# Altium footprint library PcbLib1.PcbLib: 38 footprints (part 2 of 3)
Each footprint in its own frame and in the unit in brackets; x right, y up, seen from the top. Pads: shape width x height; smd on the part's side, far side on the other; paste and mask are expansions set on the pad; w line width, h text height; cw(c..) or ccw(c..) is an arc to the next point about the centre after c.
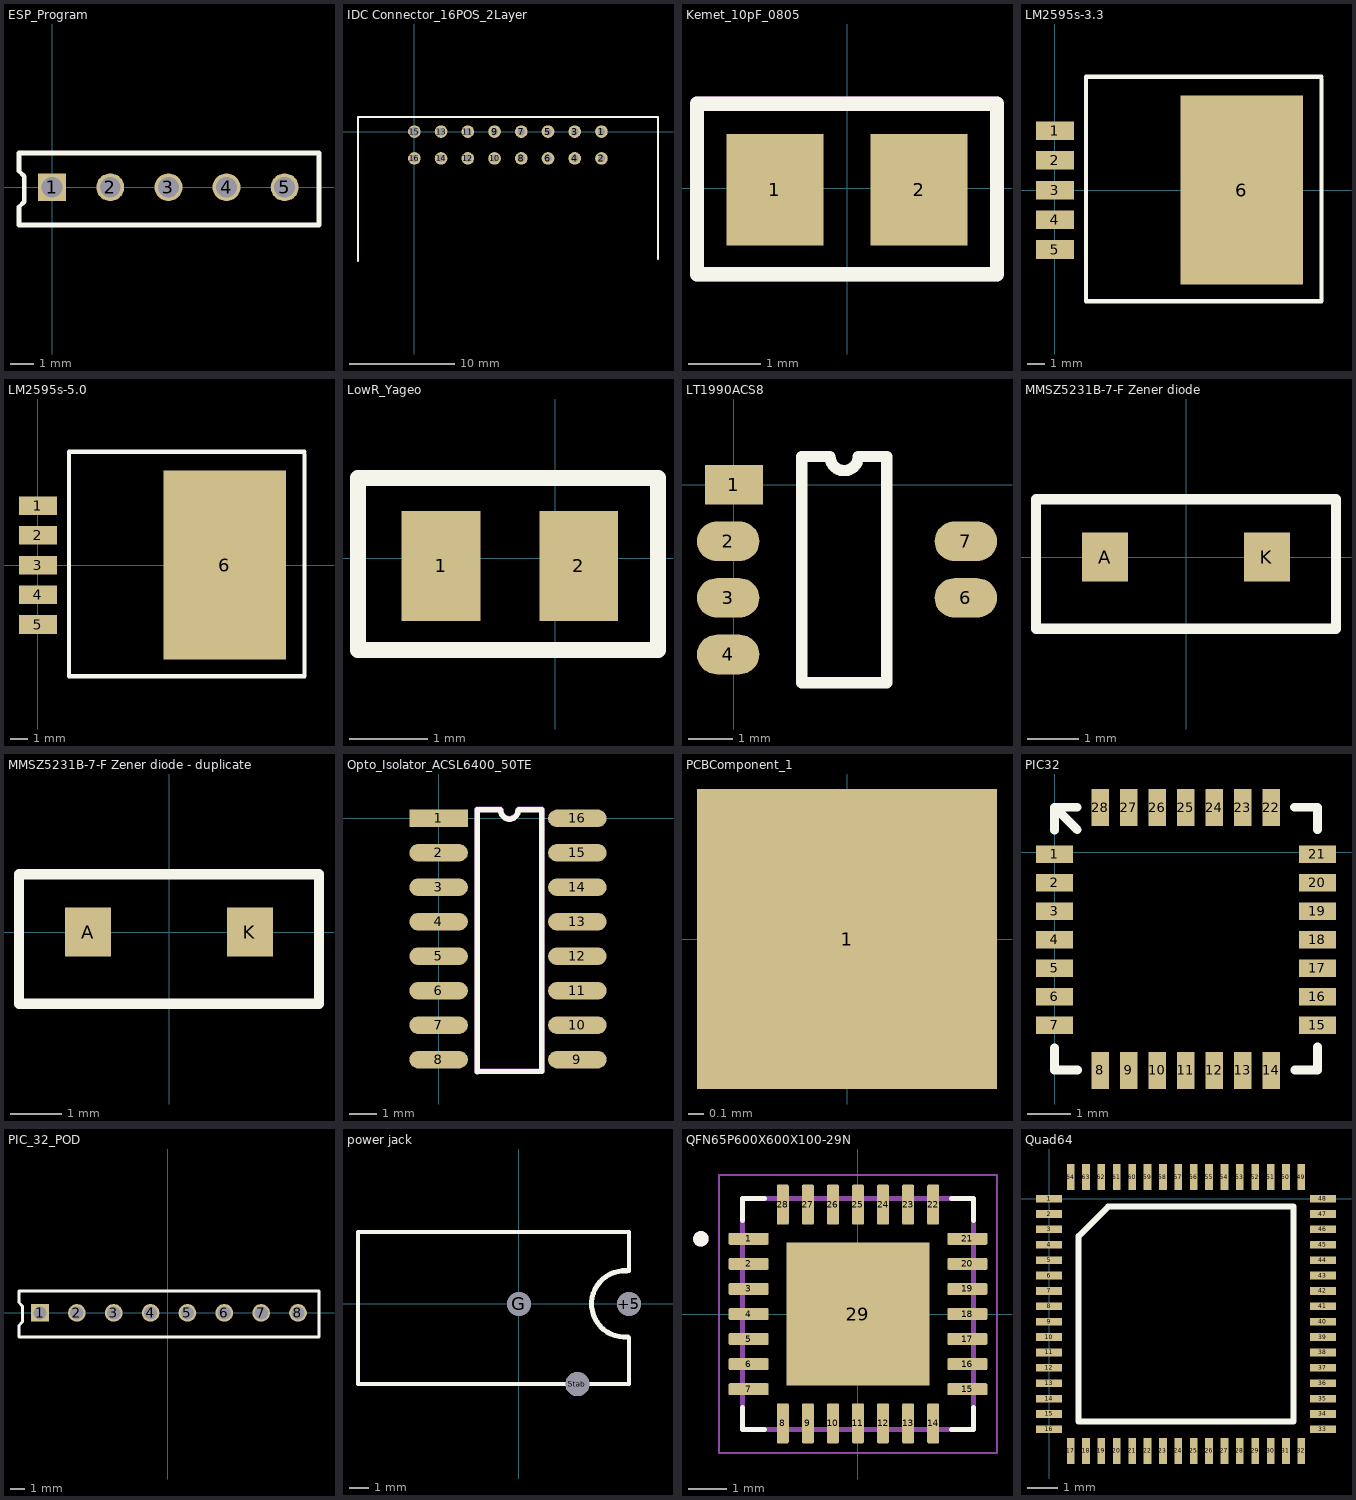
[diagram p1: the footprints below, top view; thin cyan lines are the x and y axes]

## ESP_Program [mm]
pads (5):
  rect 1.2x1.2 hole 0.9: 1(0,0)
  round 1.2 hole 0.9: 2(2.5,0) 3(5,0) 4(7.5,0) 5(10,0)
Top Overlay:
  lines w0.2: -1.425,-1.625 11.475,-1.625 11.475,1.475 -1.425,1.475 -1.425,0.7 -1.2,0.475 -1.2,-0.625 -1.425,-0.85 -1.425,-1.625

## IDC Connector_16POS_2Layer [mm]
pads (16):
  round 1.2 hole 0.7: 1(17.78,0) 2(17.78,-2.54) 3(15.24,0) 4(15.24,-2.54) 5(12.7,0) 6(12.7,-2.54) 7(10.16,0) 8(10.16,-2.54) 9(7.62,0) 10(7.62,-2.54) 11(5.08,0) 12(5.08,-2.54) 13(2.54,0) 14(2.54,-2.54) 16(0,-2.54)
  round 1.2 hole 0.9: 15(0,0)
Top Overlay:
  lines w0.2: -5.35,-12.275 -5.35,1.375 23.15,1.375 23.15,-12.075
3D body "30316-5002.stp": height 8.45, standoff -3.16, extent -5.082,-13.225 22.832,0.326

## Kemet_10pF_0805 [mm]
pads (2):
  rect 1.35x1.55 smd: 1(-1,-0.025) 2(1,-0.025)
Top Overlay:
  lines w0.2: -2.083,-1.193 2.083,-1.193 2.083,1.169 -2.083,1.169 -2.083,-1.193
Top Assembly:
  lines w0.2: -2.083,-1.193 2.083,-1.193 2.083,1.169 -2.083,1.169 -2.083,-1.193
  text ".Designator" at -1.602,-0.225 h0.7
3D body "CAPC220145_88N_KEM.step": height 0.88, standoff 0, extent -1.1,-0.725 1.1,0.725

## LM2595s-3.3 [mm]
pads (6):
  rect 2.16x1.07 smd: 1(0,3.4) 2(0,1.7) 3(0,0) 4(0,-1.7) 5(0,-3.4)
  rect 7x10.8 smd: 6(10.67,0)
Top Overlay:
  lines w0.254: 15.24,6.35 15.24,-6.35 1.778,-6.35 1.778,6.477 13.97,6.477 15.24,6.477
3D body "TS5B.step": height 4.8, standoff -0.05, extent 0,-5.207 12.132,5.207

## LM2595s-5.0 [mm]
pads (6):
  rect 2.16x1.07 smd: 1(0,3.4) 2(0,1.7) 3(0,0) 4(0,-1.7) 5(0,-3.4)
  rect 7x10.8 smd: 6(10.67,0)
Top Overlay:
  lines w0.254: 15.24,6.35 15.24,-6.35 1.778,-6.35 1.778,6.477 13.97,6.477 15.24,6.477
3D body "TS5B.step": height 4.8, standoff -0.05, extent 0,-5.207 12.132,5.207

## LowR_Yageo [mm]
pads (2):
  rect 1x1.4 smd: 1(-1.45,-0.1) 2(0.3,-0.1)
Top Overlay:
  lines w0.2: -2.505,-1.167 -2.505,1.017 1.305,1.017 1.305,-1.167 -2.505,-1.167
Top Assembly:
  lines w0.2: -2.505,-1.167 -2.505,1.017 1.305,1.017 1.305,-1.167 -2.505,-1.167
  text ".Designator" at -1.999,-0.199 h0.7
3D body "RC0805N_YAG.step": height 0.71, standoff 0, extent -1.575,-0.719 0.431,0.475

## LT1990ACS8 [mil]
pads (6):
  rect 51.18x35 smd: 1(0,0)
  oval 55.12x35 smd: 2(-5,-50) 3(-5,-100) 4(-5,-150) 6(205,-100) 7(205,-50)
Top Overlay:
  lines w10: 60,-175 60,25 85,25 ccw(c97.5,25) 110,25 135,25 135,-175 60,-175
3D body "SO-8_S_LIT.step": height 69.09, standoff 0, extent -20,-173.5 224.02,23.5

## MMSZ5231B-7-F Zener diode [mm]
pads (2):
  rect 0.9x0.95 smd: A(-1.575,0) K(1.575,0)
Top Overlay:
  lines w0.2: -2.921,-1.397 -1.207,-1.397 2.54,-1.397 2.921,-1.397 2.921,1.129 -2.921,1.129 -2.921,-1.397
3D body "SOD123_DIO.step": height 0.81, standoff 0, extent -1.925,-0.675 1.925,0.675

## MMSZ5231B-7-F Zener diode - duplicate [mm]
pads (2):
  rect 0.9x0.95 smd: A(-1.575,0) K(1.575,0)
Top Overlay:
  lines w0.2: -2.921,-1.397 -2.921,1.129 2.921,1.129 2.921,-1.397 2.54,-1.397 -1.207,-1.397 -2.921,-1.397
3D body "SOD123_DIO.step": height 0.81, standoff 0, extent -1.925,-0.675 1.925,0.675

## Opto_Isolator_ACSL6400_50TE [mm]
pads (16):
  rect 2.16x0.64 smd: 1(0,0)
  oval 2.16x0.64 smd: 2(0,-1.27) 3(0,-2.54) 4(0,-3.81) 5(0,-5.08) 6(0,-6.35) 7(0,-7.62) 8(0,-8.89) 9(5.11,-8.89) 10(5.11,-7.62) 11(5.11,-6.35) 12(5.11,-5.08) 13(5.11,-3.81) 14(5.11,-2.54) 15(5.11,-1.27) 16(5.11,0)
Top Overlay:
  lines w0.2: 1.422,-9.33 3.799,-9.326 ; 1.422,-9.322 1.422,0.31 ; 1.422,0.315 2.275,0.315 ; 2.29,0.29 ccw(c2.607,0.29) 2.925,0.29 ; 2.95,0.315 3.799,0.315 ; 3.799,-9.322 3.799,0.31
Top Assembly:
  lines w0.2: 1.422,0.31 1.422,-9.322 3.799,-9.322 3.799,0.31 ; 1.422,0.335 2.275,0.335 ; 2.29,0.31 ccw(c2.607,0.31) 2.925,0.31 ; 2.95,0.335 3.799,0.335
  text ".Designator" at 2.867,-8.053 h0.7
3D body "SOIC_6400-00TE.step": height 1.53, standoff 0, extent -0.524,-9.454 5.674,0.554

## PCBComponent_1 [mm]
pads (1):
  rect 2x2 smd: 1(0,0)
Top Paste:
  text ".Designator" at -0.455,1.228 h0.7

## PIC32 [mm]
pads (28):
  rect 0.85x0.4 smd: 1(0,-0.05) 2(0,-0.7) 3(0,-1.35) 4(0,-2) 5(0,-2.65) 6(0,-3.3) 7(0,-3.95) 15(6,-3.95) 16(6,-3.3) 17(6,-2.65) 18(6,-2) 19(6,-1.35) 20(6,-0.7) 21(6,-0.05)
  rect 0.4x0.85 smd: 8(1.043,-4.984) 9(1.693,-4.984) 10(2.343,-4.984) 11(2.993,-4.984) 12(3.643,-4.984) 13(4.293,-4.984) 14(4.943,-4.984) 22(4.943,1.016) 23(4.293,1.016) 24(3.643,1.016) 25(2.993,1.016) 26(2.343,1.016) 27(1.693,1.016) 28(1.043,1.016)
Top Layer:
  text ".Designator" at 1.525,-4.146 h1
Top Overlay:
  lines w0.2: 0,-4.466 0,-4.975 0.525,-4.975 ; 0,0.5 0,1.025 ; 0.509,1.025 0,1.025 ; 0.517,0.508 0,1.025 ; 5.475,1.025 6,1.025 6,0.516 ; 5.491,-4.975 6,-4.975 6,-4.45

## PIC_32_POD [mm]
pads (8):
  rect 1.2x1.2 hole 0.9: 1(-8.675,-0.025)
  round 1.2 hole 0.9: 2(-6.175,-0.025) 3(-3.675,-0.025) 4(-1.175,-0.025) 5(1.325,-0.025) 6(3.825,-0.025) 7(6.325,-0.025) 8(8.825,-0.025)
Top Overlay:
  lines w0.2: -10.1,-1.65 10.25,-1.65 10.25,1.45 -10.1,1.45 -10.1,0.675 -9.875,0.45 -9.875,-0.65 -10.1,-0.875 -10.1,-1.65

## power jack [mm]
pads (3):
  round 1.2 hole 1.2: +5(5.5,0) G(0,0) Stab(2.921,-4.013)
Top Overlay:
  lines w0.2: 5.5,-1.69 5.5,-4.013 1.829,-4.013 -8.052,-4.013 -8.052,3.607 -0.686,3.607 5.5,3.607 5.5,1.651
  lines w0.254: 5.413,1.66 ccw(c5.294,0.002) 5.461,-1.651

## QFN65P600X600X100-29N [mm]
pads (29):
  rrect25% 1.04x0.31 smd: 1(-2.835,1.95) 2(-2.835,1.3) 3(-2.835,0.65) 4(-2.835,0) 5(-2.835,-0.65) 6(-2.835,-1.3) 7(-2.835,-1.95) 15(2.835,-1.95) 16(2.835,-1.3) 17(2.835,-0.65) 18(2.835,0) 19(2.835,0.65) 20(2.835,1.3) 21(2.835,1.95)
  rrect25% 0.31x1.04 smd: 8(-1.95,-2.835) 9(-1.3,-2.835) 10(-0.65,-2.835) 11(0,-2.835) 12(0.65,-2.835) 13(1.3,-2.835) 14(1.95,-2.835) 22(1.95,2.835) 23(1.3,2.835) 24(0.65,2.835) 25(0,2.835) 26(-0.65,2.835) 27(-1.3,2.835) 28(-1.95,2.835)
  rect 3.7x3.7 smd paste-0.68: 29(0,0)
Top Overlay:
  circle w0.2: c-4.075,1.95 r0.1
  lines w0.127: -3,-2.425 -3,-3 -2.425,-3 ; -3,2.425 -3,3 -2.425,3 ; 2.425,-3 3,-3 3,-2.425 ; 2.425,3 3,3 3,2.425
Mechanical 13:
  circle w0.2: c-4.075,1.95 r0.1
  lines w0.127: -3,-3 -3,3 3,3 3,-3 -3,-3
Mechanical 15:
  lines w0.05: -3.605,-3.605 -3.605,3.605 3.605,3.605 3.605,-3.605 -3.605,-3.605

## Quad64 [mm]
pads (64):
  rect 0.85x0.25 smd: 1(0,0) 2(0,-0.5) 3(0,-1) 4(0,-1.5) 5(0,-2) 6(0,-2.5) 7(0,-3) 8(0,-3.5) 9(0,-4) 10(0,-4.5) 11(0,-5) 12(0,-5.5) 13(0,-6) 14(0,-6.5) 15(0,-7) 16(0,-7.5) 33(8.9,-7.5) 34(8.9,-7) 35(8.9,-6.5) 36(8.9,-6) 37(8.9,-5.5) 38(8.9,-5) 39(8.9,-4.5) 40(8.9,-4) 41(8.9,-3.5) 42(8.9,-3) 43(8.9,-2.5) 44(8.9,-2) 45(8.9,-1.5) 46(8.9,-1) 47(8.9,-0.5) 48(8.9,0)
  rect 0.25x0.85 smd: 17(0.7,-8.2) 18(1.2,-8.2) 19(1.7,-8.2) 20(2.2,-8.2) 21(2.7,-8.2) 22(3.2,-8.2) 23(3.7,-8.2) 24(4.2,-8.2) 25(4.7,-8.2) 26(5.2,-8.2) 27(5.7,-8.2) 28(6.2,-8.2) 29(6.7,-8.2) 30(7.2,-8.2) 31(7.7,-8.2) 32(8.2,-8.2) 49(8.2,0.7) 50(7.7,0.7) 51(7.2,0.7) 52(6.7,0.7) 53(6.2,0.7) 54(5.7,0.7) 55(5.2,0.7) 56(4.7,0.7) 57(4.2,0.7) 58(3.7,0.7) 59(3.2,0.7) 60(2.7,0.7) 61(2.2,0.7) 62(1.7,0.7) 63(1.2,0.7) 64(0.7,0.7)
Top Overlay:
  lines w0.2: 0.96,-7.24 7.94,-7.24 7.94,-0.26 1.92,-0.26 0.96,-1.22 0.96,-7.24
3D body "QFN64_9x9MC_MCH.step": height 0.99, standoff 0, extent -0.046,-8.246 8.946,0.746